# EAGLE library part SD_MMC_CARD (library misc)
Mechanical size of an SD/MMC card- NOT a socket!
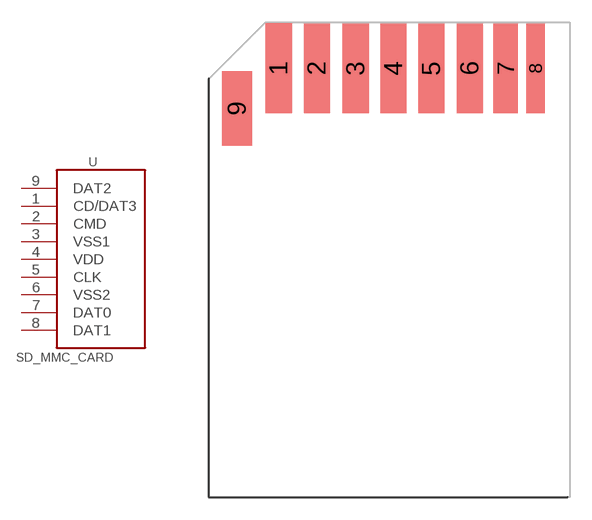
[diagram p1: symbol with the pads of SD-MMC-CARD; footprint SD-MMC-CARD]

Designator prefix -

## SD_MMC_CARDSD_PCB  [SD-MMC-CARD]
1  CD/DAT3
2  CMD
3  VSS1
4  VDD
5  CLK
6  VSS2
7  DAT0
8  DAT1
9  DAT2

## Footprint SD-MMC-CARD (pad centres in mm)
smd 1.75 x 6: 1 -6.745,14.713; 2 -4.195,14.703; 3 -1.6,14.703; 4 0.93,14.703; 5 3.465,14.703; 6 6.03,14.703
smd 1.65 x 6: 7 8.43,14.703
smd 1.25 x 6: 8 10.43,14.703
smd 2 x 5: 9 -9.53,12.03